# EAGLE library part ULN2803A (library mille-feuille)
ULN2803A Darlington Transistor Array
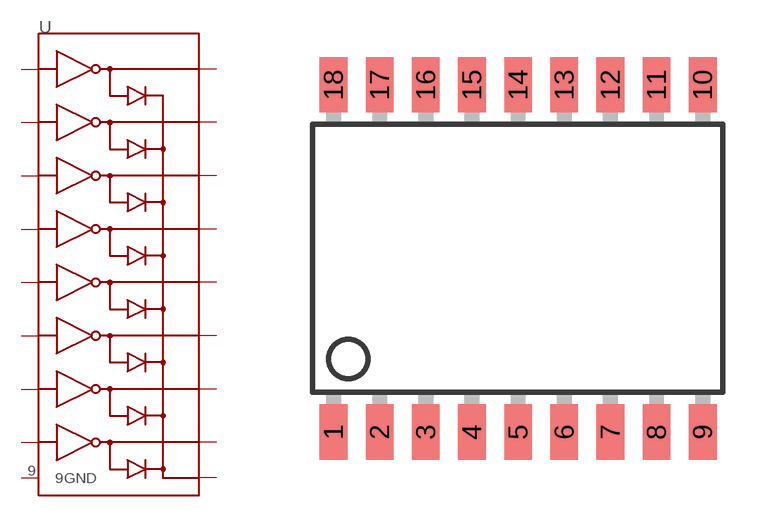
[diagram p11: symbol with the pads of SOIC18; footprint SOIC18]

Designator prefix U

## ULN2803A  [SOIC18]
1  1
2  2
3  3
4  4
5  5
6  6
7  7
8  8
9  9GND
10  10
11  11
12  12
13  13
14  14
15  15
16  16
17  17
18  18

## Footprint SOIC18 (pad centres in mm)
smd 0.762 x 1.524: 1 -5.08,-4.775; 2 -3.81,-4.775; 3 -2.54,-4.775; 4 -1.27,-4.775; 5 0,-4.775; 6 1.27,-4.775; 7 2.54,-4.775; 8 3.81,-4.775; 9 5.08,-4.775; 10 5.08,4.775; 11 3.81,4.775; 12 2.54,4.775; 13 1.27,4.775; 14 0,4.775; 15 -1.27,4.775; 16 -2.54,4.775; 17 -3.81,4.775; 18 -5.08,4.775